# Altium footprint library SIMlib.PcbLib: 5 footprints
Each footprint in its own frame and in the unit in brackets; x right, y up, seen from the top. Pads: shape width x height; smd on the part's side, far side on the other; paste and mask are expansions set on the pad; w line width, h text height; cw(c..) or ccw(c..) is an arc to the next point about the centre after c.
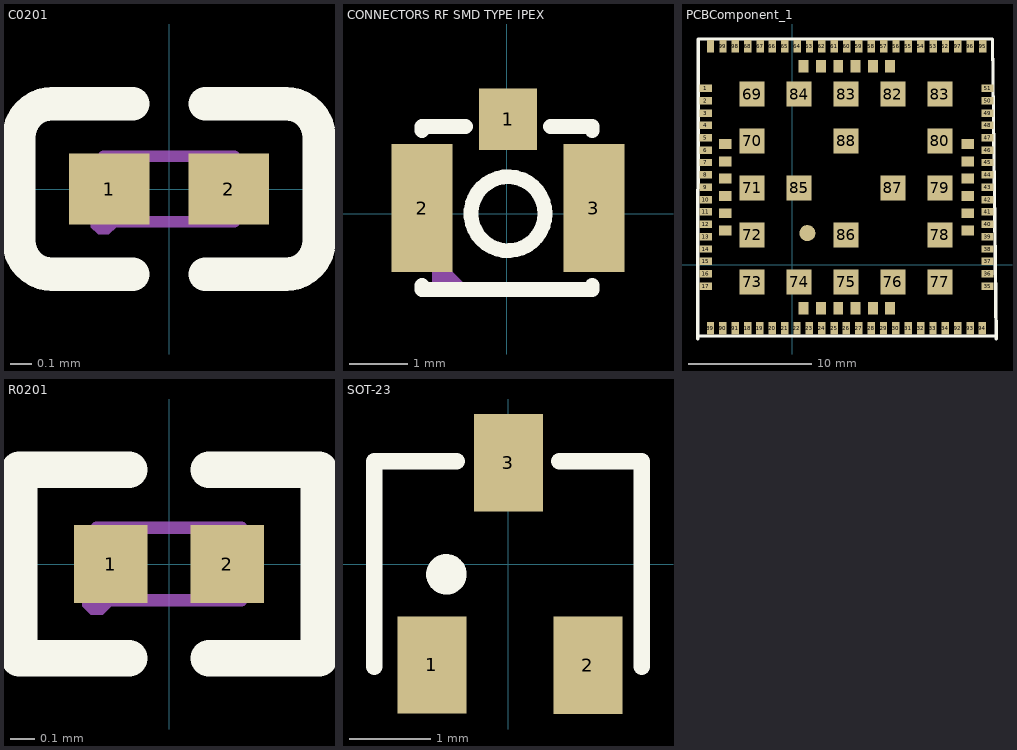
[diagram p0: the footprints below, top view; thin cyan lines are the x and y axes]

## C0201 [mm]
pads (2):
  rect 0.368x0.324 smd paste-100 mask+0.051: 1(-0.274,0) 2(0.274,0)
Top Overlay:
  lines w0.152: -0.166,-0.391 -0.535,-0.391 cw(c-0.535,-0.238) -0.687,-0.238 -0.687,0.238 cw(c-0.535,0.238) -0.535,0.391 -0.166,0.391 ; 0.166,-0.391 0.535,-0.391 ccw(c0.535,-0.238) 0.687,-0.238 0.687,0.238 ccw(c0.535,0.238) 0.535,0.391 0.166,0.391
Top Paste:
  region: -0.081,-0.138 -0.081,0.138 -0.105,0.162 -0.434,0.162 -0.458,0.138 -0.458,-0.138 -0.434,-0.162 -0.105,-0.162
  region: 0.081,-0.138 0.081,0.138 0.105,0.162 0.434,0.162 0.458,0.138 0.458,-0.138 0.434,-0.162 0.105,-0.162
Mechanical 15:
  region: 0.3,-0.15 0.3,0.15 0.15,0.15 0.15,-0.15
  region: -0.3,-0.15 -0.3,0.15 -0.15,0.15 -0.15,-0.15
  region: -0.24,-0.15 -0.241,-0.126 -0.276,-0.092 -0.324,-0.092 -0.359,-0.126 -0.36,-0.15 -0.359,-0.174 -0.324,-0.208 -0.276,-0.208 -0.241,-0.174
  lines w0.051: -0.3,-0.15 0.3,-0.15 0.3,0.15 -0.3,0.15 -0.3,-0.15

## CONNECTORS RF SMD TYPE IPEX [mm]
height 9.5
pads (3):
  rect 1x1.05 smd: 1(0.024,1.627)
  rect 1.05x2.2 smd: 2(-1.451,0.102) 3(1.499,0.102)
Top Overlay:
  circle w0.254: c0.024,0.004 r0.635
  lines w0.254: -1.451,-1.23 -1.451,-1.296 1.354,-1.296 1.47,-1.296 1.47,-1.23 ; -0.708,1.5 -1.451,1.5 ; 0.755,1.5 1.47,1.5 ; -1.451,1.5 -1.451,1.433 -1.451,1.5 ; 1.47,1.5 1.47,1.433 1.47,1.5
Mechanical 15:
  region: -1.276,-1.196 -1.276,-0.646 -0.726,-1.196
3D body "ipex_pcb.step": height 1.25, standoff 0, extent -1.449,-1.397 1.551,1.703

## PCBComponent_1 [mm]
pads (125):
  rect 1x0.6 smd: 1(-6.998,14.29) 2(-6.998,13.29) 3(-6.998,12.29) 4(-6.998,11.29) 5(-6.998,10.29) 6(-6.998,9.29) 7(-6.998,8.29) 8(-6.998,7.29) 9(-6.998,6.29) 10(-6.998,5.29) 11(-6.998,4.29) 12(-6.998,3.29) 13(-6.998,2.29) 14(-6.998,1.29) 15(-6.998,0.29) 16(-6.998,-0.71) 17(-6.998,-1.71) 35(15.8,-1.71) 36(15.8,-0.71) 37(15.8,0.29) 38(15.8,1.29) 39(15.8,2.29) 40(15.8,3.29) 41(15.8,4.29) 42(15.8,5.29) 43(15.8,6.29) 44(15.8,7.29) 45(15.8,8.29) 46(15.8,9.29) 47(15.8,10.29) 48(15.8,11.29) 49(15.8,12.29) 50(15.8,13.29) 51(15.8,14.29)
  rect 0.6x1 smd: 18(-3.615,-5.118) 19(-2.615,-5.118) 20(-1.615,-5.118) 21(-0.615,-5.118) 22(0.385,-5.118) 23(1.385,-5.118) 24(2.385,-5.118) 25(3.385,-5.118) 26(4.385,-5.118) 27(5.385,-5.118) 28(6.385,-5.118) 29(7.385,-5.118) 30(8.385,-5.118) 31(9.385,-5.118) 32(10.385,-5.118) 33(11.385,-5.118) 34(12.385,-5.118) 52(12.396,17.693) 53(11.396,17.693) 54(10.396,17.693) 55(9.396,17.693) 56(8.396,17.693) 57(7.396,17.693) 58(6.396,17.693) 59(5.396,17.693) 60(4.396,17.693) 61(3.396,17.693) 62(2.396,17.693) 63(1.396,17.693) 64(0.396,17.693) 65(-0.604,17.693) 66(-1.604,17.693) 67(-2.604,17.693) 68(-3.604,17.693) 89(-6.615,-5.118) 90(-5.615,-5.118) 91(-4.615,-5.118) 92(13.385,-5.118) 93(14.385,-5.118) 94(15.385,-5.118) 95(15.396,17.693) 96(14.396,17.693) 97(13.396,17.693) 98(-4.604,17.693) 99(-5.604,17.693) 100(-6.615,17.692)
  rect 2x2 smd: 69(-3.25,13.83) 70(-3.25,10.03) 71(-3.25,6.23) 72(-3.25,2.43) 73(-3.25,-1.37) 74(0.55,-1.37) 75(4.35,-1.37) 76(8.15,-1.37) 77(11.95,-1.37) 78(11.95,2.43) 79(11.95,6.23) 80(11.95,10.03) 82(8.15,13.83) 83(4.35,13.83) 83(11.95,13.83) 84(0.55,13.83) 85(0.55,6.23) 86(4.35,2.43) 87(8.15,6.23) 88(4.35,10.03)
  rect 1x0.8 smd: 101(-5.423,9.781) 102(-5.423,8.381) 103(-5.423,6.981) 104(-5.423,5.581) 105(-5.423,4.181) 106(-5.423,2.781) 113(14.2,2.78) 114(14.2,4.18) 115(14.2,5.58) 116(14.2,6.98) 117(14.2,8.38) 118(14.2,9.78)
  rect 0.8x1 smd: 107(0.92,-3.51) 108(2.32,-3.51) 109(3.72,-3.51) 110(5.12,-3.51) 111(6.52,-3.51) 112(7.92,-3.51) 119(7.92,16.09) 120(6.52,16.09) 121(5.12,16.09) 122(3.72,16.09) 123(2.32,16.09) 124(0.92,16.09)
  round 1.3 smd: ""(1.224,2.575)
Top Overlay:
  lines w0.254: -7.647,-5.99 -7.6,18.24 ; -7.647,-5.76 16.508,-5.76 ; -7.6,18.28 16.2,18.28 ; 16.2,18.24 16.508,-5.99

## R0201 [mm]
pads (2):
  rect 0.303x0.324 smd paste-100 mask+0.051: 1(-0.242,0) 2(0.242,0)
Top Overlay:
  lines w0.152: -0.166,-0.391 -0.622,-0.391 -0.622,0.391 -0.166,0.391 ; 0.166,-0.391 0.622,-0.391 0.622,0.391 0.166,0.391
Top Paste:
  region: 0.081,-0.138 0.081,0.138 0.105,0.162 0.369,0.162 0.393,0.138 0.393,-0.138 0.369,-0.162 0.105,-0.162
  region: -0.081,-0.138 -0.081,0.138 -0.105,0.162 -0.369,0.162 -0.393,0.138 -0.393,-0.138 -0.369,-0.162 -0.105,-0.162
Mechanical 15:
  region: -0.24,-0.15 -0.24,-0.125 -0.275,-0.09 -0.325,-0.09 -0.36,-0.125 -0.36,-0.15 -0.36,-0.175 -0.325,-0.21 -0.275,-0.21 -0.24,-0.175
  region: -0.3,-0.15 -0.3,0.15 -0.15,0.15 -0.15,-0.15
  region: 0.3,-0.15 0.3,0.15 0.15,0.15 0.15,-0.15
  lines w0.051: -0.3,-0.15 -0.3,0.15 0.3,0.15 0.3,-0.15 -0.3,-0.15

## SOT-23 [mm] "SOT 23 _ 1-3-2"
height 1.27
pads (3):
  rect 0.85x1.2 smd: 1(-0.94,-1.245) 2(0.985,-1.25) 3(0.005,1.25)
Top Overlay:
  circle w0.25: c-0.76,-0.127 r0.125
  lines w0.203: -1.651,-1.27 -1.651,1.27 -0.635,1.27 ; 0.635,1.27 1.651,1.27 1.651,-1.27
3D body "SW3DPS-SOT-23-DEFAULT.STEP": height 1.06, standoff -0.04, extent -1.475,-1.326 1.525,1.174